# EAGLE library part 68800711622 (library WR-WTB)
WR-WTB 2.50 mm “J” Type Vertical Male Shrouded Header Material Properties Insulator Material PA66 Insulator Flammability Rating UL94 V-0 Color White Contact Material Brass Contact Plating Tin Contact Type Stamped Certification UL Approval E323964 General Information Operating Temperature -25 °C up to +85 °C Compliance RoHS IR 3 A Working Voltage 250 V (AC) Withstanding Voltage 800 V (AC) Contact Resistance 20 mΩ RISO 1000 MΩ Pitch 2.5 mm Gender Male Type Vertical Packaging Properties Packaging Bag <https://www.we-online.com/components/media/o33376v209%20Multi-WR-WTB250-6880xx11622.jpg> Details see: www.we-online.com/en/components/products/WTB_2_50_J_TYPE_VERTICAL_MALE_SHROUDED_HEADER_6880XX11622 <www.we-online.com/catalog/WTB_2_50_J_TYPE_VERTICAL_MALE_SHROUDED_HEADER_6880XX11622/?utm_source=eagle_model&utm_medium=description_link&utm_campaign=eisos_eagle> Updated by Ella 2025-03-06 2025 (C) Würth Elektronik
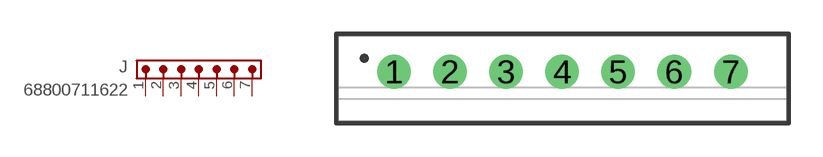
[diagram p144: symbol with the pads of 68800711622; footprint 68800711622]

Designator prefix J

## 68800711622 (CONTACT-RESISTANCE: 20mOhm; DATASHEET-URL: https://www.we-online.com/redexpert/spec/68800711622?ae; GENDER: Male; IR: 3A; L: 20mm; MOUNT: THT; PACKAGING: Bag; PART-NUMBER: 68800711622; PCB-CABLE-PANEL: PCB; PINS: 7; PITCH: 2.5mm; TYPE: Vertical; VALUE: 68800711622; WORKING-VOLTAGE: 250V(AC))  [68800711622]
1  1  pas
2  2  pas
3  3  pas
4  4  pas
5  5  pas
6  6  pas
7  7  pas

## Footprint 68800711622 (pad centres in mm)
WR-WTB 2.50 mm “J” Type Vertical Male Shrouded Header,7 Pins
drill 1: 1 -7.52,0.3; 2 -5.02,0.3; 3 -2.52,0.3; 4 -0.02,0.3; 5 2.48,0.3; 6 4.98,0.3; 7 7.52,0.3